# Altium schematic symbol library JK0_RJ45_WLED.SchLib: 1 symbol
Pins are listed as number, name and electrical type; pins without a type are passive.

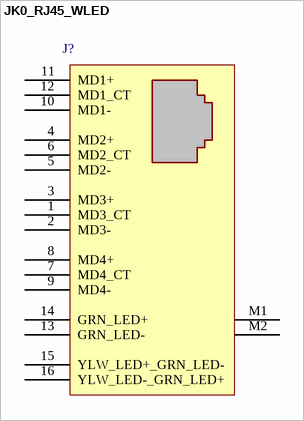
[diagram p0: symbol JK0_RJ45_WLED]

## JK0_RJ45_WLED
designator J?
pins: 1 MD3_CT, 2 MD3-, 3 MD3+, 4 MD2+, 5 MD2-, 6 MD2_CT, 7 MD4_CT, 8 MD4+, 9 MD4-, 10 MD1-, 11 MD1+, 12 MD1_CT, 13 GRN_LED-, 14 GRN_LED+, 15 YLW_LED+_GRN_LED-, 16 YLW_LED-_GRN_LED+, M1, M2